# Altium footprint library sm_cap.PcbLib: 36 footprints (part 1 of 3)
Each footprint in its own frame and in the unit in brackets; x right, y up, seen from the top. Pads: shape width x height; smd on the part's side, far side on the other; paste and mask are expansions set on the pad; w line width, h text height; cw(c..) or ccw(c..) is an arc to the next point about the centre after c.
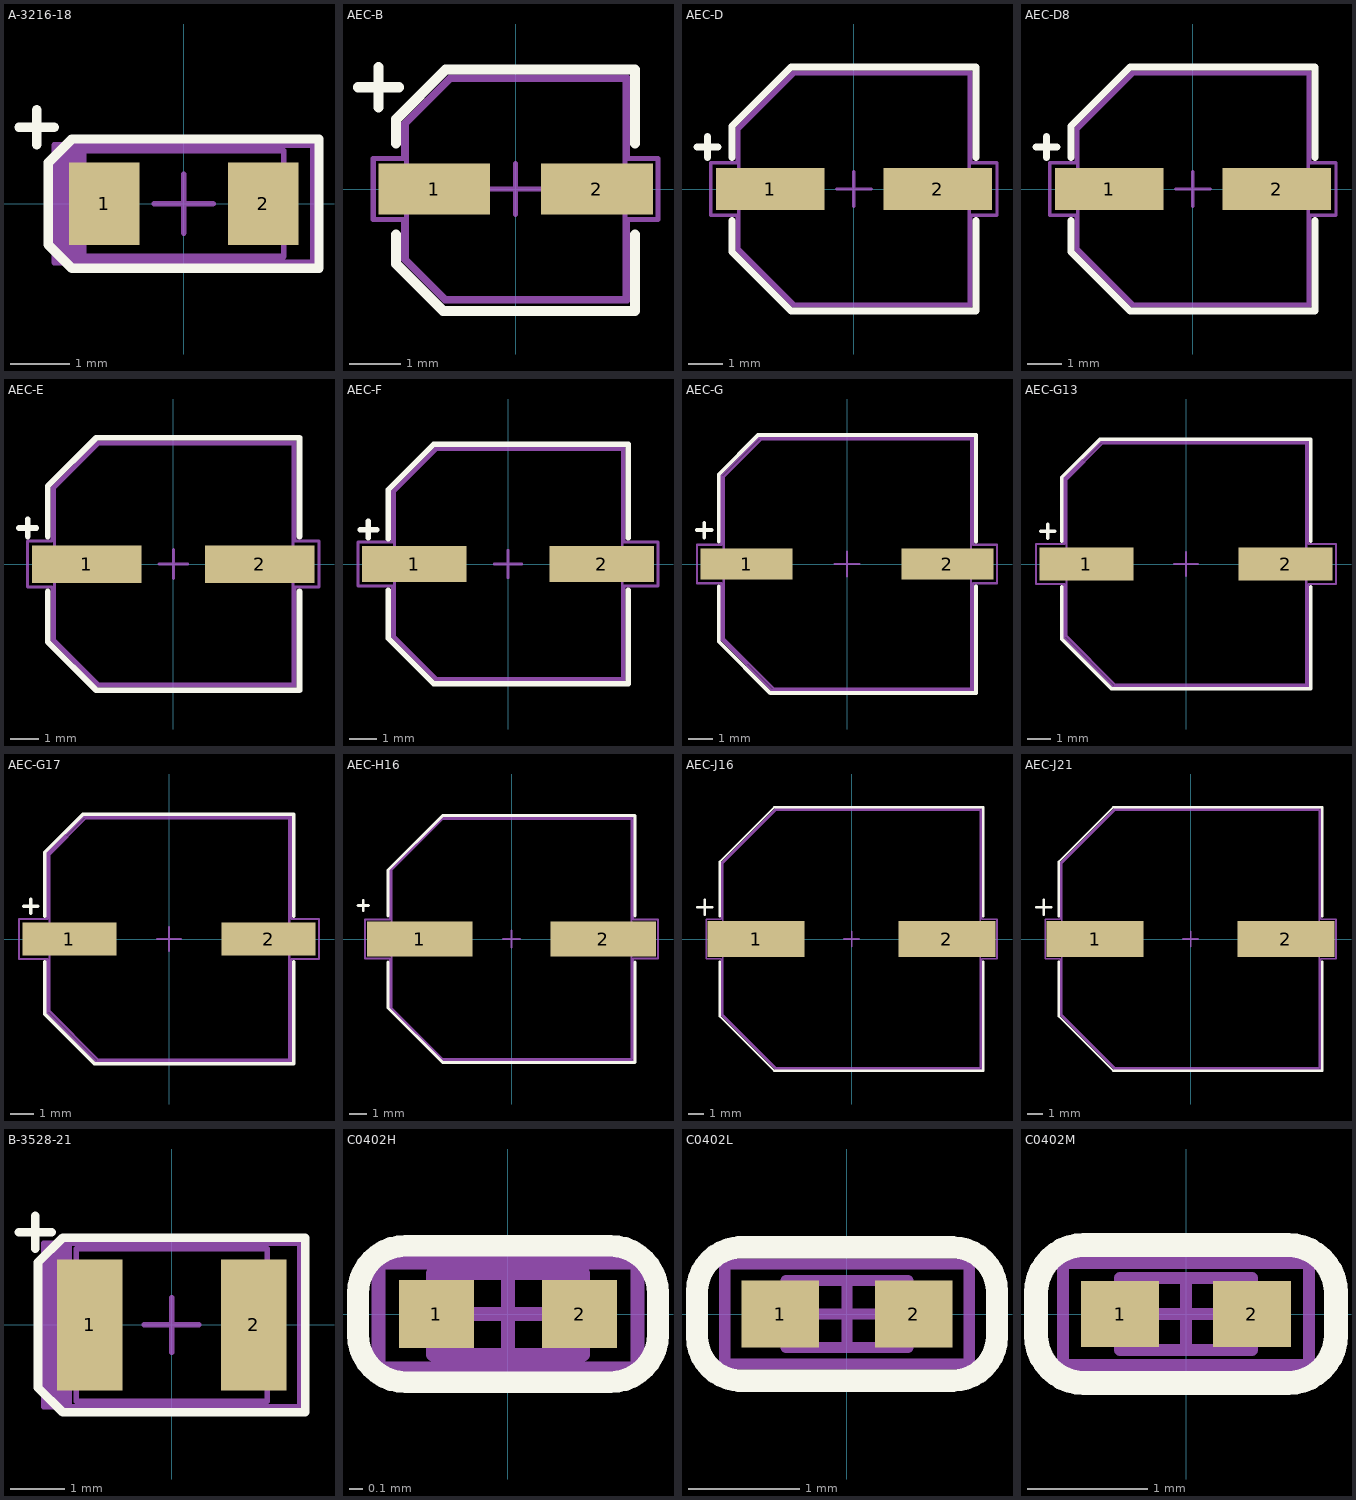
[diagram p0: the footprints below, top view; thin cyan lines are the x and y axes]

## A-3216-18 [mm] "Solid Tantalum Chip Capacitor"
height 1.8
pads (2):
  rect 1.2x1.4 smd: 1(-1.35,0) 2(1.35,0)
Top Overlay:
  lines w0.16: -2.8,1.3 -2.2,1.3 ; -2.5,1 -2.5,1.6 ; -2.3,-0.7 -2.3,0.7 -1.9,1.1 2.3,1.1 2.3,-1.1 -1.9,-1.1 -2.3,-0.7
Mechanical 13:
  lines w0.1: -0.5,0 0.5,0 ; 0,-0.5 0,0.5 ; -1.7,-0.9 1.7,-0.9 1.7,0.9 -1.7,0.9 -1.7,-0.9
Mechanical 15:
  rectangle: -2.2,-1 -1.7,1
  lines w0.1: -2.2,-1 2.2,-1 2.2,1 -2.2,1 -2.2,-1
  text ".Designator" at -1.6,-0.125 h0.5
3D body "User Library-cap3216h160.step": height 1.6, standoff 0, extent -1.6,-0.8 1.6,0.8

## AEC-B [mm] "SMD Aluminum Electrolytic Capacitor 4.3mm X 5.4mm"
height 5.4
pads (2):
  rect 2.2x1 smd: 1(-1.6,0) 2(1.6,0)
Top Overlay:
  lines w0.2: -3.1,2 -2.3,2 ; -2.7,1.6 -2.7,2.4 ; -2.35,-0.9 -2.35,-1.475 -1.425,-2.4 2.35,-2.4 2.35,-0.9 ; -2.35,0.9 -2.35,1.375 -1.375,2.35 2.35,2.35 2.35,0.9
Mechanical 13:
  lines w0.1: -0.5,0 0.5,0 ; 0,-0.5 0,0.5 ; -2.15,-1.375 -2.15,1.275 -1.275,2.15 2.15,2.15 2.15,-2.15 -1.375,-2.15 -2.15,-1.375
Mechanical 15:
  lines w0.1: -2.8,-0.6 -2.8,0.6 -2.2,0.6 -2.2,1.3 -1.3,2.2 2.2,2.2 2.2,0.6 2.8,0.6 2.8,-0.6 2.2,-0.6 2.2,-2.2 -1.4,-2.2 -2.2,-1.4 -2.2,-0.6 -2.8,-0.6
  text ".Designator" at -1.6,-0.125 h0.5
3D body: height 0.4, standoff 0, extent 1.55,-0.4 2.15,0.4
3D body "User Library-CAP SMD SVP 4_0x5_4.STEP": height 5.4, standoff 0, extent -2.5,-2.15 2.5,2.15
3D body: height 0.4, standoff 0, extent -2.25,-0.4 -1.65,0.4

## AEC-D [mm] "SMD Aluminum Electrolytic Capacitor 6.3mm X 5.4mm"
height 5.4
pads (2):
  rect 3.1x1.2 smd: 1(-2.4,0) 2(2.4,0)
Top Overlay:
  lines w0.2: -4.5,1.2 -3.9,1.2 ; -4.2,0.9 -4.2,1.5 ; -3.5,-0.9 -3.5,-1.8 -1.8,-3.5 3.5,-3.5 3.5,-0.9 ; -3.5,0.9 -3.5,1.8 -1.8,3.5 3.5,3.5 3.5,0.9
Mechanical 13:
  lines w0.1: -0.5,0 0.5,0 ; 0,-0.5 0,0.5 ; -3.3,-1.7 -3.3,1.7 -1.7,3.3 3.3,3.3 3.3,-3.3 -1.7,-3.3 -3.3,-1.7
Mechanical 15:
  lines w0.1: -4.1,-0.75 -4.1,0.75 -3.35,0.75 -3.35,1.75 -1.75,3.35 3.35,3.35 3.35,0.75 4.1,0.75 4.1,-0.75 3.35,-0.75 3.35,-3.35 -1.75,-3.35 -3.35,-1.75 -3.35,-0.75 -4.1,-0.75
  text ".Designator" at -1.6,-0.125 h0.5
3D body: height 0.4, standoff 0, extent 1.55,-0.4 2.15,0.4
3D body "User Library-ALU-D.STEP": height 5.4, standoff 0, extent -3.5,-3.3 3.5,3.3
3D body: height 0.4, standoff 0, extent -2.25,-0.4 -1.65,0.4

## AEC-D8 [mm] "SMD Aluminum Electrolytic Capacitor 6.3mm X 7.7mm"
height 7.7
pads (2):
  rect 3.1x1.2 smd: 1(-2.4,0) 2(2.4,0)
Top Overlay:
  lines w0.2: -4.5,1.2 -3.9,1.2 ; -4.2,0.9 -4.2,1.5 ; -3.5,-0.9 -3.5,-1.8 -1.8,-3.5 3.5,-3.5 3.5,-0.9 ; -3.5,0.9 -3.5,1.8 -1.8,3.5 3.5,3.5 3.5,0.9
Mechanical 13:
  lines w0.1: -0.5,0 0.5,0 ; 0,-0.5 0,0.5 ; -3.3,-1.7 -3.3,1.7 -1.7,3.3 3.3,3.3 3.3,-3.3 -1.7,-3.3 -3.3,-1.7
Mechanical 15:
  lines w0.1: -4.1,-0.75 -4.1,0.75 -3.35,0.75 -3.35,1.75 -1.75,3.35 3.35,3.35 3.35,0.75 4.1,0.75 4.1,-0.75 3.35,-0.75 3.35,-3.35 -1.75,-3.35 -3.35,-1.75 -3.35,-0.75 -4.1,-0.75
  text ".Designator" at -1.6,-0.125 h0.5
3D body: height 0.4, standoff 0, extent 1.55,-0.4 2.15,0.4
3D body "User Library-ALU-D8.STEP": height 7.7, standoff 0, extent -3.5,-3.3 3.5,3.3
3D body: height 0.4, standoff 0, extent -2.25,-0.4 -1.65,0.4

## AEC-E [mm] "SMD Aluminum Electrolytic Capacitor 8.0mm X 6.2mm"
height 6.2
pads (2):
  rect 3.8x1.3 smd: 1(-3,0) 2(3,0)
Top Overlay:
  lines w0.2: -5.35,1.25 -4.75,1.25 ; -5.05,0.95 -5.05,1.55 ; -4.35,-0.95 -4.35,-2.7 -2.675,-4.375 4.375,-4.375 4.375,-0.95 ; -4.35,0.95 -4.35,2.7 -2.675,4.375 4.375,4.375 4.375,0.95
Mechanical 13:
  lines w0.1: -0.5,0 0.5,0 ; 0,-0.5 0,0.5 ; -4.125,-2.625 -2.6,-4.15 4.15,-4.15 4.15,4.15 -2.6,4.15 -4.125,2.625 -4.125,-2.625
Mechanical 15:
  lines w0.1: -5.05,-0.8 -4.2,-0.8 -4.2,-2.65 -2.625,-4.225 4.225,-4.225 4.225,-0.8 5.05,-0.8 5.05,0.8 4.225,0.8 4.225,4.225 -2.625,4.225 -4.2,2.65 -4.2,0.8 -5.05,0.8 -5.05,-0.8
  text ".Designator" at -1.6,-0.125 h0.5
3D body: height 0.4, standoff 0, extent -2.25,-0.4 -1.65,0.4
3D body "User Library-ALU-E.STEP": height 6.2, standoff 0, extent -4.5,-4.15 4.5,4.15
3D body: height 0.4, standoff 0, extent 1.55,-0.4 2.15,0.4

## AEC-F [mm] "SMD Aluminum Electrolytic Capacitor 8.0mm X 10.2mm"
height 10.2
pads (2):
  rect 3.8x1.3 smd: 1(-3.4,0) 2(3.4,0)
Top Overlay:
  lines w0.2: -5.375,1.25 -4.775,1.25 ; -5.075,0.95 -5.075,1.55 ; -4.35,-0.95 -4.35,-2.7 -2.7,-4.35 4.375,-4.35 4.375,-0.95 ; -4.35,0.925 -4.35,2.7 -2.7,4.35 4.375,4.35 4.375,0.95
Mechanical 13:
  lines w0.1: -0.5,0 0.5,0 ; 0,-0.5 0,0.5 ; -4.125,-2.625 -2.6,-4.15 4.15,-4.15 4.15,4.15 -2.6,4.15 -4.125,2.625 -4.125,-2.625
Mechanical 15:
  lines w0.1: -5.45,-0.8 -4.2,-0.8 -4.2,-2.65 -2.65,-4.2 4.225,-4.2 4.225,-0.8 5.45,-0.8 5.45,0.8 4.225,0.8 4.225,4.2 -2.65,4.2 -4.2,2.65 -4.2,0.8 -5.45,0.8 -5.45,-0.8
  text ".Designator" at -1.6,-0.125 h0.5
3D body: height 0.4, standoff 0, extent -2.25,-0.4 -1.65,0.4
3D body "User Library-ALU-F.STEP": height 10.2, standoff 0, extent -4.95,-4.15 4.95,4.15
3D body: height 0.4, standoff 0, extent 1.55,-0.4 2.15,0.4

## AEC-G [mm] "SMD Aluminum Electrolytic Capacitor 10.0mm X 10.2mm"
height 10.2
pads (2):
  rect 3.8x1.3 smd: 1(-4.15,0) 2(4.15,0)
Top Overlay:
  lines w0.16: -6.2,1.4 -5.6,1.4 ; -5.9,1.1 -5.9,1.7 ; -5.3,-0.925 -5.3,-3.2 -3.175,-5.325 5.325,-5.325 5.325,-0.925 ; -5.3,0.925 -5.3,3.7 -3.675,5.325 5.325,5.325 5.325,0.925
Mechanical 13:
  lines w0.1: -0.5,0 0.5,0 ; 0,-0.5 0,0.5 ; -5.1,-3.075 -3.025,-5.15 5.125,-5.15 5.125,5.15 -3.55,5.15 -5.1,3.6 -5.1,-3.075
Mechanical 15:
  lines w0.1: -6.2,-0.8 -5.2,-0.8 -5.2,-3.125 -3.1,-5.225 5.225,-5.225 5.225,-0.8 6.2,-0.8 6.2,0.8 5.225,0.8 5.225,5.225 -3.625,5.225 -5.2,3.65 -5.2,0.8 -6.2,0.8 -6.2,-0.8
  text ".Designator" at -1.6,-0.125 h0.5
3D body "User Library-ALU-G.STEP": height 10.2, standoff 0, extent -5.8,-5.15 5.8,5.15

## AEC-G13 [mm] "SMD Aluminum Electrolytic Capacitor 10.3mm X 13.5mm"
height 13.5
pads (2):
  rect 4x1.4 smd: 1(-4.25,0) 2(4.25,0)
Top Overlay:
  lines w0.16: -6.2,1.4 -5.6,1.4 ; -5.9,1.1 -5.9,1.7 ; -5.3,-0.975 -5.3,-3.2 -3.175,-5.325 5.325,-5.325 5.325,-0.975 ; -5.3,0.975 -5.3,3.7 -3.675,5.325 5.325,5.325 5.325,0.975
Mechanical 13:
  lines w0.1: -0.5,0 0.5,0 ; 0,-0.5 0,0.5 ; -5.1,-3.075 -3.025,-5.15 5.125,-5.15 5.125,5.15 -3.55,5.15 -5.1,3.6 -5.1,-3.075
Mechanical 15:
  lines w0.1: -6.4,-0.85 -5.2,-0.85 -5.2,-3.125 -3.1,-5.225 5.225,-5.225 5.225,-0.85 6.4,-0.85 6.4,0.85 5.225,0.85 5.225,5.225 -3.625,5.225 -5.2,3.65 -5.2,0.85 -6.4,0.85 -6.4,-0.85
  text ".Designator" at -2.475,-0.125 h0.5
3D body "User Library-ALU-G13.step": height 14, standoff 0, extent -6.15,-5.25 6.15,5.25

## AEC-G17 [mm] "SMD Aluminum Electrolytic Capacitor 10.3mm X 16.5mm"
height 16.5
pads (2):
  rect 4x1.4 smd: 1(-4.25,0) 2(4.25,0)
Top Overlay:
  lines w0.16: -6.2,1.4 -5.6,1.4 ; -5.9,1.1 -5.9,1.7 ; -5.3,-0.975 -5.3,-3.2 -3.175,-5.325 5.325,-5.325 5.325,-0.975 ; -5.3,0.975 -5.3,3.7 -3.675,5.325 5.325,5.325 5.325,0.975
Mechanical 13:
  lines w0.1: -0.5,0 0.5,0 ; 0,-0.5 0,0.5 ; -5.1,-3.075 -3.025,-5.15 5.125,-5.15 5.125,5.15 -3.55,5.15 -5.1,3.6 -5.1,-3.075
Mechanical 15:
  lines w0.1: -6.4,-0.85 -5.2,-0.85 -5.2,-3.125 -3.1,-5.225 5.225,-5.225 5.225,-0.85 6.4,-0.85 6.4,0.85 5.225,0.85 5.225,5.225 -3.625,5.225 -5.2,3.65 -5.2,0.85 -6.4,0.85 -6.4,-0.85
  text ".Designator" at -2.475,-0.125 h0.5
3D body "User Library-ALU-G17.step": height 17, standoff 0, extent -6.15,-5.25 6.15,5.25

## AEC-H16 [mm] "SMD Aluminum Electrolytic Capacitor 12.5mm X 16.0mm"
height 16
pads (2):
  rect 6x2 smd: 1(-5.2,0) 2(5.2,0)
Top Overlay:
  lines w0.16: -8.7,1.9 -8.1,1.9 ; -8.4,1.6 -8.4,2.2 ; -7,-1.3 -7,-3.9 -3.9,-7 7,-7 7,-1.3 ; -7,1.3 -7,3.9 -3.9,7 7,7 7,1.3
Mechanical 13:
  lines w0.1: -0.5,0 0.5,0 ; 0,-0.5 0,0.5 ; -6.8,-3.9 -6.8,3.9 -3.9,6.8 6.8,6.8 6.8,-6.8 -3.9,-6.8 -6.8,-3.9
Mechanical 15:
  lines w0.1: -8.3,-1.1 -8.3,1.1 -6.9,1.1 -6.9,3.9 -3.9,6.9 6.9,6.9 6.9,1.1 8.3,1.1 8.3,-1.1 6.9,-1.1 6.9,-6.9 -3.9,-6.9 -6.9,-3.9 -6.9,-1.1 -8.3,-1.1
  text ".Designator" at -1.6,-0.125 h0.8
3D body "User Library-ALU-H16.STEP": height 17, standoff 0, extent -7.75,-6.85 7.75,6.85

## AEC-J16 [mm] "SMD Aluminum Electrolytic Capacitor 16.0mm X 16.5mm"
height 16.5
pads (2):
  rect 6.4x2.4 smd: 1(-6.3,0) 2(6.3,0)
Top Overlay:
  lines w0.16: -10.2,2.1 -9.2,2.1 ; -9.7,1.6 -9.7,2.6 ; -8.7,-1.5 -8.7,-5.1 -5.1,-8.7 8.7,-8.7 8.7,-1.5 ; -8.7,1.5 -8.7,5.1 -5.1,8.7 8.7,8.7 8.7,1.5
Mechanical 13:
  lines w0.1: -0.5,0 0.5,0 ; 0,-0.5 0,0.5 ; -8.5,-5 -5,-8.5 8.5,-8.5 8.5,8.5 -5,8.5 -8.5,5 -8.5,-5
Mechanical 15:
  lines w0.1: -9.6,-1.3 -8.6,-1.3 -8.6,-5 -5,-8.6 8.6,-8.6 8.6,-1.3 9.6,-1.3 9.6,1.3 8.6,1.3 8.6,8.6 -5,8.6 -8.6,5 -8.6,1.3 -9.6,1.3 -9.6,-1.3
  text ".Designator" at -1.6,-0.125 h0.8
3D body "SW3dPS-capacitor size J16.STEP": height 16.53, standoff 0.02, extent -8.85,-8.5 8.85,8.5

## AEC-J21 [mm] "SMD Aluminum Electrolytic Capacitor 16.0mm X 21.5mm"
height 21.5
pads (2):
  rect 6.4x2.4 smd: 1(-6.3,0) 2(6.3,0)
Top Overlay:
  lines w0.16: -10.2,2.1 -9.2,2.1 ; -9.7,1.6 -9.7,2.6 ; -8.7,-1.5 -8.7,-5.1 -5.1,-8.7 8.7,-8.7 8.7,-1.5 ; -8.7,1.5 -8.7,5.1 -5.1,8.7 8.7,8.7 8.7,1.5
Mechanical 13:
  lines w0.1: -0.5,0 0.5,0 ; 0,-0.5 0,0.5 ; -8.5,-5 -5,-8.5 8.5,-8.5 8.5,8.5 -5,8.5 -8.5,5 -8.5,-5
Mechanical 15:
  lines w0.1: -9.6,-1.3 -8.6,-1.3 -8.6,-5 -5,-8.6 8.6,-8.6 8.6,-1.3 9.6,-1.3 9.6,1.3 8.6,1.3 8.6,8.6 -5,8.6 -8.6,5 -8.6,1.3 -9.6,1.3 -9.6,-1.3
  text ".Designator" at -1.6,-0.125 h0.8
3D body "SW3dPS-capacitor size J16.STEP": height 16.53, standoff 0.02, extent -8.85,-8.5 8.85,8.5

## B-3528-21 [mm] "Solid Tantalum Chip Capacitor"
height 2.1
pads (2):
  rect 1.2x2.4 smd: 1(-1.5,0) 2(1.5,0)
Top Overlay:
  lines w0.16: -2.8,1.7 -2.2,1.7 ; -2.5,1.4 -2.5,2 ; -2.45,-1.15 -2,-1.6 2.45,-1.6 2.45,1.6 -2,1.6 -2.45,1.15 -2.45,-1.15
Mechanical 13:
  lines w0.1: -0.5,0 0.5,0 ; 0,-0.5 0,0.5 ; -1.75,-1.4 -1.75,1.4 1.75,1.4 1.75,-1.4 -1.75,-1.4
Mechanical 15:
  rectangle: -2.325,-1.5 -1.825,1.5
  lines w0.1: -2.35,-1.5 -2.35,1.5 2.35,1.5 2.35,-1.5 -2.35,-1.5
  text ".Designator" at -1.6,-0.125 h0.5
3D body "User Library-cap3216h160.step": height 1.6, standoff 0, extent -1.6,-0.8 1.6,0.8

## C0402H [mm] "Chip Capacitor, 2-Leads, Body 1.0x0.5mm, IPC High Density"
height 0.61
pads (2):
  rect 0.55x0.5 smd: 1(-0.525,0) 2(0.525,0)
Top Overlay:
  lines w0.16: -1.1,-0.15 ccw(c-0.75,-0.15) -0.75,-0.5 0.75,-0.5 ccw(c0.75,-0.15) 1.1,-0.15 1.1,0.15 ccw(c0.75,0.15) 0.75,0.5 -0.75,0.5 ccw(c-0.75,0.15) -1.1,0.15 -1.1,-0.15
Mechanical 13:
  lines w0.1: -0.3,0 0.3,0 ; 0,-0.3 0,0.3 ; -0.55,-0.3 0.55,-0.3 0.55,0.3 -0.55,0.3 -0.55,-0.3
Mechanical 15:
  lines w0.1: -0.95,-0.4 0.95,-0.4 0.95,0.375 -0.95,0.375 -0.95,-0.4
  text ".Designator" at -0.8,-0.25 h0.5
3D body: height 0.48, standoff 0.01, extent -0.254,-0.262 0.254,0.263
3D body: height 0.5, standoff 0, extent 0.254,-0.275 0.533,0.275
3D body: height 0.5, standoff 0, extent -0.533,-0.275 -0.254,0.275

## C0402L [mm] "Chip Capacitor, 2-Leads, Body 1.0x0.5mm, IPC Low Density"
height 0.61
pads (2):
  rect 0.7x0.6 smd: 1(-0.6,0) 2(0.6,0)
Top Overlay:
  lines w0.2: -0.975,-0.6 0.95,-0.6 ccw(c0.95,-0.2) 1.35,-0.2 1.35,0.2 ccw(c0.95,0.2) 0.95,0.6 -0.975,0.6 ; -0.95,-0.6 cw(c-0.95,-0.2) -1.35,-0.2 -1.35,0.2 cw(c-0.95,0.2) -0.95,0.6
Mechanical 13:
  lines w0.1: -0.3,0 0.3,0 ; 0,-0.3 0,0.3 ; -0.55,-0.3 -0.55,0.3 0.55,0.3 0.55,-0.3 -0.55,-0.3
Mechanical 15:
  lines w0.1: -1.1,-0.45 -1.1,0.45 1.1,0.45 1.1,-0.45 -1.1,-0.45
  text ".Designator" at -0.8,-0.25 h0.5
3D body: height 0.5, standoff 0, extent -0.533,-0.275 -0.254,0.275
3D body: height 0.5, standoff 0, extent 0.254,-0.275 0.533,0.275
3D body: height 0.48, standoff 0.01, extent -0.254,-0.262 0.254,0.263

## C0402M [mm] "Chip Capacitor, 2-Leads, Body 1.0x0.5mm, IPC Medium Density"
height 0.61
pads (2):
  rect 0.65x0.55 smd: 1(-0.55,0) 2(0.55,0)
Top Overlay:
  lines w0.2: -1.25,-0.175 ccw(c-0.85,-0.175) -0.85,-0.575 0.85,-0.575 ccw(c0.85,-0.175) 1.25,-0.175 1.25,0.175 ccw(c0.85,0.175) 0.85,0.575 -0.85,0.575 ccw(c-0.85,0.175) -1.25,0.175 -1.25,-0.175
Mechanical 13:
  lines w0.1: -0.3,0 0.3,0 ; 0,-0.3 0,0.3 ; -0.55,-0.3 -0.55,0.3 0.55,0.3 0.55,-0.3 -0.55,-0.3
Mechanical 15:
  lines w0.1: -1.025,-0.425 -1.025,0.425 1.025,0.425 1.025,-0.425 -1.025,-0.425
  text ".Designator" at -0.8,-0.25 h0.5
3D body: height 0.5, standoff 0, extent -0.533,-0.275 -0.254,0.275
3D body: height 0.5, standoff 0, extent 0.254,-0.275 0.533,0.275
3D body: height 0.48, standoff 0.01, extent -0.254,-0.262 0.254,0.263